# Altium footprint library ELEC(16.0X32.0)-TH.PcbLib: 1 footprints
Each footprint in its own frame and in the unit in brackets; x right, y up, seen from the top. Pads: shape width x height; smd on the part's side, far side on the other; paste and mask are expansions set on the pad; w line width, h text height; cw(c..) or ccw(c..) is an arc to the next point about the centre after c.
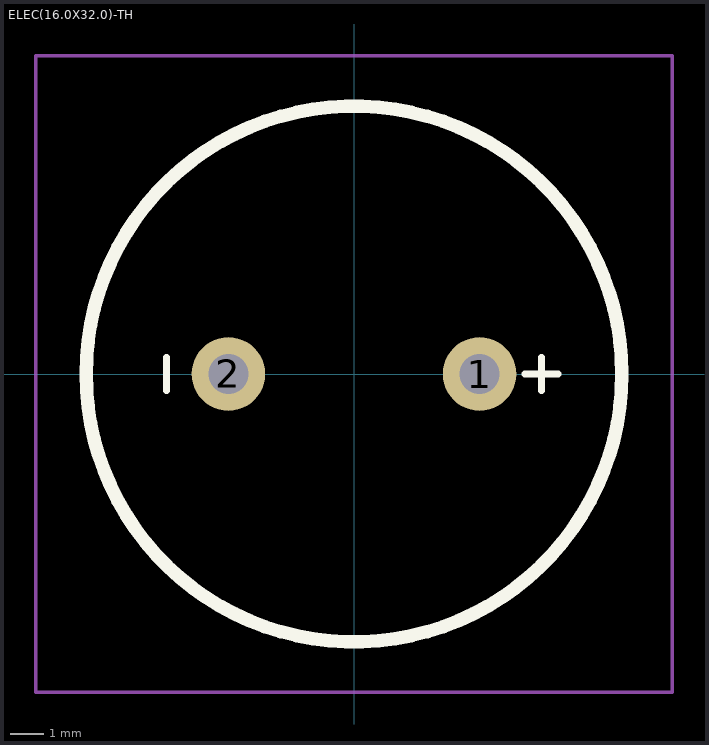
[diagram p0: the footprint, top view; thin cyan lines are the x and y axes]

## ELEC(16.0X32.0)-TH [mm]
pads (2):
  round 2.2 hole 1.2: 1(3.75,0) 2(-3.75,0)
Top Overlay:
  circle w0.4: c0,0 r8
  lines w0.2: -5.6,-0.5 -5.6,0.5 ; 5.1,0 6.1,0 ; 5.6,-0.5 5.6,0.5
Top Courtyard:
  lines w0.1: -9.5,-8 -9.5,-9.5 ; -8,-9.5 -9.5,-9.5 ; 8,9.5 9.5,9.5 ; 9.5,8 9.5,9.5 ; -9.5,-9.5 9.5,-9.5 9.5,9.5 ; -9.5,-9.5 -9.5,9.5 9.5,9.5
3D body: height 32, standoff 0, extent -8,-7.996 8,7.996